# EAGLE library part ATTINY85 (library homemade-hardware)
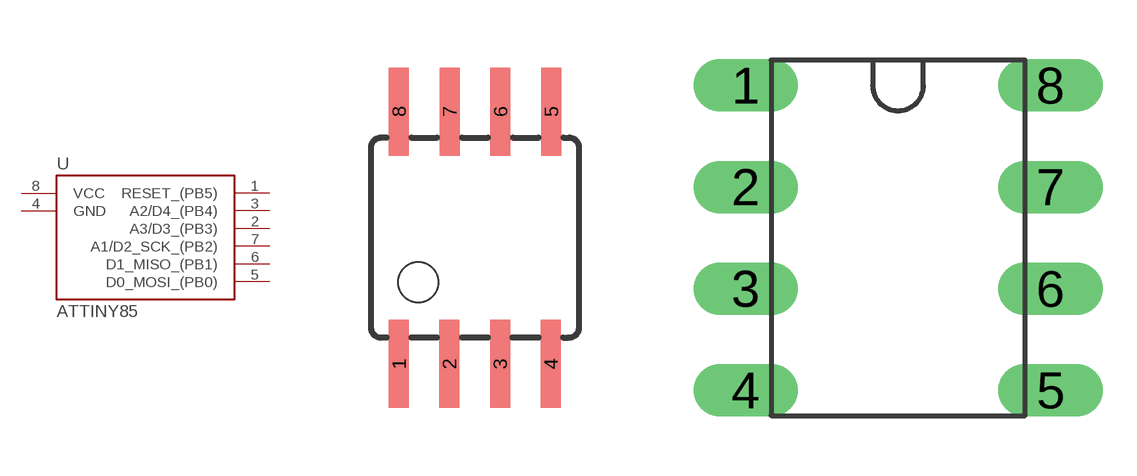
[diagram p15: symbol with the pads of SOIC8; footprints SOIC8, SOCKET-8PIN]

Designator prefix -

## ATTINY85-20SU  [SOIC8]
1  RESET_(PB5)
2  A3/D3_(PB3)
3  A2/D4_(PB4)
4  GND  pwr
5  D0_MOSI_(PB0)
6  D1_MISO_(PB1)
7  A1/D2_SCK_(PB2)
8  VCC  pwr

## ATTINY85-DIP  [SOCKET-8PIN]
Pads as for SOIC8

## ATTINY85-SOCKET-BENT  [SOCKET-8PIN-BENT]
Pads as for SOIC8

## Footprint SOIC8 (pad centres in mm)
Wide Plastic Gull Wing Small Outline Package
smd 0.5 x 2.2: 1 -1.905,-3.154; 2 -0.645,-3.154; 3 0.625,-3.154; 4 1.895,-3.154; 5 1.905,3.154; 6 0.635,3.154; 7 -0.635,3.154; 8 -1.905,3.154

## Footprint SOCKET-8PIN (pad centres in mm)
drill 0.8 long: 1 -3.81,3.81; 2 -3.81,1.27; 3 -3.81,-1.27; 4 -3.81,-3.81; 5 3.81,-3.81; 6 3.81,-1.27; 7 3.81,1.27; 8 3.81,3.81

## Footprint SOCKET-8PIN-BENT (pad centres in mm)
smd 2.54 x 1.27: 1 -4.445,3.81; 2 -4.445,1.27; 3 -4.445,-1.27; 4 -4.445,-3.81; 5 4.445,-3.81; 6 4.445,-1.27; 7 4.445,1.27; 8 4.445,3.81